# EAGLE library part L3GD20 (library IMU)
MEMS 3-Axis Digital Output Gyroscope
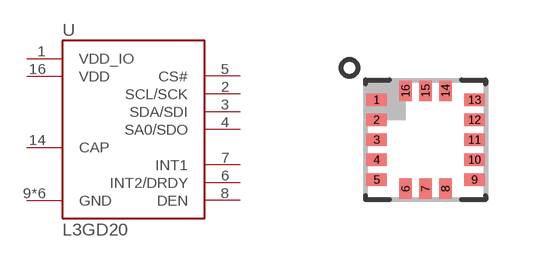
[diagram p0: symbol with the pads of LGA16_3X3; footprint LGA16_3X3]

Designator prefix U

## L3GD20H (MF: ST Microelectronics; MOUNT: Leadless; MPN: L3GD20H; REVIEWED: NO; TESTED: NO)  [LGA16_3X3]
1  VDD_IO
2  SCL/SCK
3  SDA/SDI
4  SA0/SDO
5  CS#
6  INT2/DRDY
7  INT1
8  DEN
9  GND
10  GND
11  GND
12  GND
13  GND
14  CAP
15  GND
16  VDD

## Footprint LGA16_3X3 (pad centres in mm)
LGA-16 As found in LIS3DH/L3GD20H datasheet.
smd 0.51 x 0.31: 1 -1.225,1; 2 -1.225,0.5; 3 -1.225,0; 4 -1.225,-0.5; 5 -1.225,-1; 9 1.225,-1; 10 1.225,-0.5; 11 1.225,0; 12 1.225,0.5; 13 1.225,1
smd 0.31 x 0.51: 6 -0.5,-1.225; 7 0,-1.225; 8 0.5,-1.225; 14 0.5,1.225; 15 0,1.225; 16 -0.5,1.225